# Altium footprint library Wurth_Elektronik_Passive_rev16a.PCBLIB: 810 footprints (part 29 of 51)
Each footprint in its own frame and in the unit in brackets; x right, y up, seen from the top. Pads: shape width x height; smd on the part's side, far side on the other; paste and mask are expansions set on the pad; w line width, h text height; cw(c..) or ccw(c..) is an arc to the next point about the centre after c.
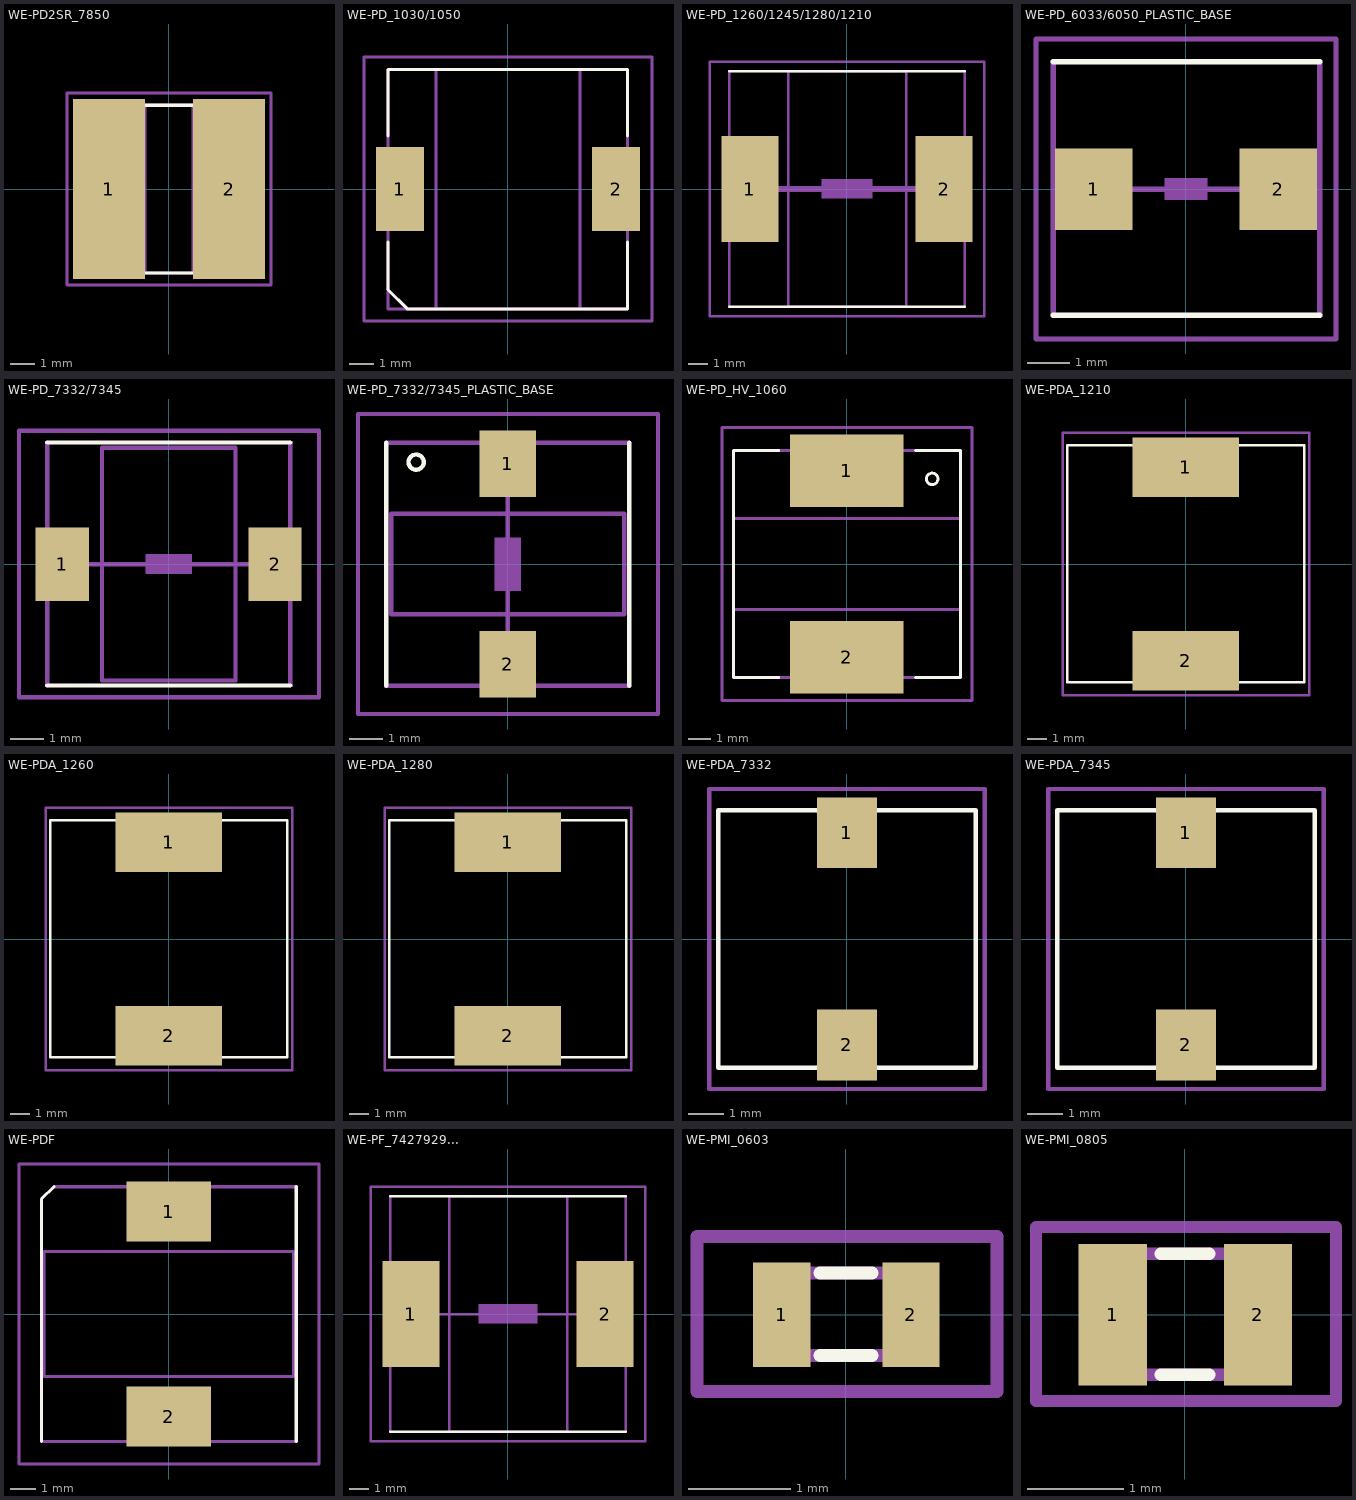
[diagram p28: the footprints below, top view; thin cyan lines are the x and y axes]

## WE-PD2SR_7850 [mil]
pads (2):
  rect 119x296 smd: 1(-98.43,0) 2(99,0)
Top Overlay:
  lines w5: -39.37,-137.8 40,-137.8 ; -39.37,138 40,138
Mechanical 2:
  text ">NAME" at -157.48,179 h77.5
Mechanical 4:
  text ">VALUE" at -157.48,-236.22 h77.5
Mechanical 10:
  lines w5: -39.37,-137.8 -39.37,138 40,138 40,-137.8 -39.37,-137.8
Mechanical 16:
  lines w5: -153.54,-137.8 -153.54,138 154,138 154,-137.8 -153.54,-137.8
Mechanical 27:
  lines w5: -167.32,-157.48 168,-157.48 168,158 -167.32,158 -167.32,-157.48

## WE-PD_1030/1050 [mil]
pads (2):
  rect 79x138 smd: 1(-177.17,0) 2(178,0)
Top Overlay:
  lines w5: -196.85,-86.61 -196.85,-165.35 -165.35,-196.85 197,-196.85 197,-86.61 ; -196.85,87 -196.85,197 197,197 197,87
Mechanical 2:
  text ">NAME" at -346.71,244 h77.5
Mechanical 4:
  text ">VALUE" at -346.71,-294.24 h77.5
Mechanical 10:
  lines w5: -118.11,-196.85 -118.11,197 119,197 119,-196.85 -118.11,-196.85
Mechanical 16:
  lines w5: -196.85,-196.85 -196.85,197 197,197 197,-196.85 -196.85,-196.85
Mechanical 27:
  lines w5: -236.22,-216.54 -236.22,217 237,217 237,-216.54 -236.22,-216.54

## WE-PD_1260/1245/1280/1210 [mil]
pads (2):
  rect 115x213 smd: 1(-194.88,0) 2(195,0)
Top Overlay:
  lines w5: -236.22,-236.22 237,-236.22 ; -236.22,237 237,237
Mechanical 2:
  text ">NAME" at -248.43,-319.69 h77.5
Mechanical 4:
  text ">VALUE" at -228.74,290 h77.5
Mechanical 10:
  lines w5: -118.11,-236.22 -118.11,237 119,237 119,-236.22 -118.11,-236.22
Mechanical 16:
  region: 51.75,-19.43 51.75,20.25 -51.43,20.25 -51.43,-19.43
  lines w5: -236.22,-236.22 -236.22,237 ; 237,-236.22 237,237
  lines w12: -194.88,0 195,0
Mechanical 27:
  lines w5: -275.59,-255.91 -275.59,256 276,256 276,-255.91 -275.59,-255.91

## WE-PD_6033/6050_PLASTIC_BASE [mil]
pads (2):
  rect 71x75 smd: 1(-84.65,0) 2(85,0)
Top Overlay:
  lines w5: -122.05,-116.14 123,-116.14 ; -122.05,117 123,117
Mechanical 2:
  text ">NAME" at -100,-200 h77.5
Mechanical 4:
  text ">VALUE" at -100,150 h77.5
Mechanical 16:
  rectangle: -19.68,-9.84 20,10
  lines w5: -122.05,-116.14 -122.05,117 ; -82.68,0 83,0 ; 123,-116.14 123,117
Mechanical 27:
  lines w5: -137.8,-137.8 -137.8,138 138,138 138,-137.8 -137.8,-137.8

## WE-PD_7332/7345 [mil]
pads (2):
  rect 63x87 smd: 1(-125.98,0) 2(126,0)
Top Overlay:
  lines w5: -143.7,-143.7 144,-143.7 ; -143.7,144 144,144
Mechanical 2:
  text ">NAME" at -144.69,-219.69 h77.5
Mechanical 4:
  text ">VALUE" at -144.69,170 h77.5
Mechanical 10:
  lines w5: -78.74,-137.8 -78.74,138 79,138 79,-137.8 -78.74,-137.8
Mechanical 16:
  region: 27.87,-11.69 27.87,12.13 -27.69,12.13 -27.69,-11.69
  lines w5: -143.7,-143.7 -143.7,144 ; -125.98,0 126,0 ; 144,-143.7 144,144
Mechanical 27:
  lines w5: -177.17,-157.48 -177.17,158 178,158 178,-157.48 -177.17,-157.48

## WE-PD_7332/7345_PLASTIC_BASE [mil]
pads (2):
  rect 67x79 smd: 1(0,119) 2(0,-118.11)
Top Overlay:
  circle w5: c-108.27,121 r9
  lines w5: -143.7,-143.7 -143.7,144 ; 144,-143.7 144,144
Mechanical 2:
  text ">NAME" at -199.21,-160.63 h77.5
Mechanical 4:
  text ">VALUE" at 254,-166.93 h77.5
Mechanical 10:
  lines w5: -137.8,-59.06 -137.8,60 138,60 138,-59.06 -137.8,-59.06
Mechanical 16:
  rectangle: -15.75,-31.5 16,32
  lines w5: -143.7,-143.7 144,-143.7 ; -143.7,144 144,144 ; 0,-111.81 0,112
Mechanical 27:
  lines w5: -177.17,-177.17 -177.17,178 178,178 178,-177.17 -177.17,-177.17

## WE-PD_HV_1060 [mil]
pads (2):
  rect 197x126 smd: 1(0,162) 2(0,-161.42)
Top Overlay:
  circle w5: c148,148 r10
  circle w5: c148,148 r10
  lines w5: -118.11,-196.85 -196.85,-196.85 -196.85,197 -118.11,197 ; 119,-196.85 197,-196.85 197,197 119,197
Mechanical 2:
  text ">NAME" at -237.8,-216.54 h77.5
Mechanical 4:
  text ">VALUE" at 276,-216.54 h77.5
Mechanical 10:
  lines w5: -196.85,-78.74 197,-78.74 197,79 -196.85,79 -196.85,-78.74
Mechanical 16:
  lines w5: -196.85,-196.85 -196.85,197 197,197 197,-196.85 -196.85,-196.85
Mechanical 27:
  lines w5: -216.54,-236.22 217,-236.22 217,237 -216.54,237 -216.54,-236.22

## WE-PDA_1210 [mil]
pads (2):
  rect 213x119 smd: 1(0,193) 2(0,-192.91)
Top Overlay:
  lines w5: -106.3,-236.22 -236.22,-236.22 -236.22,237 -101.18,237 ; 102,237 237,237 237,-236.22 107,-236.22
Mechanical 2:
  text ">NAME" at -250,300 h77.5
Mechanical 4:
  text ">VALUE" at -250,-350 h77.5
Mechanical 16:
  lines w5: -106.3,-236.22 107,-236.22 ; -106.3,237 107,237
Mechanical 27:
  lines w5: -246.06,-261.81 247,-261.81 247,262 -246.06,262 -246.06,-261.81

## WE-PDA_1260 [mil]
pads (2):
  rect 213x119 smd: 1(0,193) 2(0,-192.91)
Top Overlay:
  lines w5: -106.3,-236.22 -236.22,-236.22 -236.22,237 -101.18,237 ; 102,237 237,237 237,-236.22 107,-236.22
Mechanical 2:
  text ">NAME" at -250,300 h77.5
Mechanical 4:
  text ">VALUE" at -250,-350 h77.5
Mechanical 16:
  lines w5: -106.3,-236.22 107,-236.22 ; -106.3,237 107,237
Mechanical 27:
  lines w5: -246.06,-261.81 247,-261.81 247,262 -246.06,262 -246.06,-261.81

## WE-PDA_1280 [mil]
pads (2):
  rect 213x119 smd: 1(0,193) 2(0,-192.91)
Top Overlay:
  lines w5: -106.3,-236.22 -236.22,-236.22 -236.22,237 -101.18,237 ; 102,237 237,237 237,-236.22 107,-236.22
Mechanical 2:
  text ">NAME" at -250,300 h77.5
Mechanical 4:
  text ">VALUE" at -250,-350 h77.5
Mechanical 16:
  lines w5: -106.3,-236.22 107,-236.22 ; -106.3,237 107,237
Mechanical 27:
  lines w5: -246.06,-261.81 247,-261.81 247,262 -246.06,262 -246.06,-261.81

## WE-PDA_7332 [mil]
pads (2):
  rect 67x79 smd: 1(0,119) 2(0,-118.11)
Top Overlay:
  lines w5: -33.46,-143.7 -143.7,-143.7 -143.7,144 -33.46,144 ; 34,-143.7 144,-143.7 144,144 34,144
Mechanical 2:
  text ">NAME" at -171.26,182 h77.5
Mechanical 4:
  text ">VALUE" at -171.26,-231.89 h77.5
Mechanical 16:
  lines w5: -33.46,-143.7 34,-143.7 ; -33.46,144 34,144
Mechanical 27:
  lines w5: -153.54,-167.32 154,-167.32 154,168 -153.54,168 -153.54,-167.32

## WE-PDA_7345 [mil]
pads (2):
  rect 67x79 smd: 1(0,119) 2(0,-118.11)
Top Overlay:
  lines w5: -33.46,-143.7 -143.7,-143.7 -143.7,144 -33.46,144 ; 34,-143.7 144,-143.7 144,144 34,144
Mechanical 2:
  text ">NAME" at -171.26,182 h77.5
Mechanical 4:
  text ">VALUE" at -171.26,-231.89 h77.5
Mechanical 16:
  lines w5: -33.46,-143.7 34,-143.7 ; -33.46,144 34,144
Mechanical 27:
  lines w5: -153.54,-167.32 154,-167.32 154,168 -153.54,168 -153.54,-167.32

## WE-PDF [mil]
pads (2):
  rect 134x95 smd: 1(0,162) 2(0,-161.42)
Top Overlay:
  lines w5: -200.79,-200.79 -200.79,182 -181.1,201 ; 201,-200.79 201,201
Mechanical 2:
  text ">NAME" at -275.59,-196.85 h77.5
Mechanical 4:
  text ">VALUE" at 296,-216.54 h77.5
Mechanical 10:
  lines w5: -196.85,-98.43 -196.85,99 197,99 197,-98.43 -196.85,-98.43
Mechanical 16:
  lines w5: -200.79,-200.79 201,-200.79 ; -181.1,201 201,201
Mechanical 27:
  lines w5: -236.22,-236.22 -236.22,237 237,237 237,-236.22 -236.22,-236.22

## WE-PF_7427929... [mil]
pads (2):
  rect 115x213 smd: 1(-194.88,0) 2(195,0)
Top Overlay:
  lines w5: -236.22,-236.22 237,-236.22 ; -236.22,237 237,237
Mechanical 2:
  text ">NAME" at -235.93,-325.3 h77.5
Mechanical 4:
  text ">VALUE" at -235.93,276 h77.5
Mechanical 10:
  lines w5: -118.11,-236.22 -118.11,237 119,237 119,-236.22 -118.11,-236.22
Mechanical 16:
  region: 59.69,-19.37 59.69,20.31 -59.37,20.31 -59.37,-19.37
  lines w5: -236.22,-236.22 -236.22,237 ; -196.85,0 197,0 ; 237,-236.22 237,237
Mechanical 27:
  lines w5: -275.59,-255.91 -275.59,256 276,256 276,-255.91 -275.59,-255.91

## WE-PMI_0603 [mil]
pads (2):
  rect 22x40 smd: 1(-24.61,0) 2(25,0)
Top Overlay:
  lines w5: -9.84,-15.75 10,-15.75 ; -9.84,16 10,16
Mechanical 2:
  text ">NAME" at -145.13,47 h77.5
Mechanical 4:
  text ">VALUE" at -145.13,-116.2 h77.5
Mechanical 16:
  lines w5: -31.5,-15.75 -31.5,16 32,16 32,-15.75 -31.5,-15.75
Mechanical 27:
  lines w5: -57.09,-29.53 -57.09,30 58,30 58,-29.53 -57.09,-29.53

## WE-PMI_0805 [mil]
pads (2):
  rect 28x58 smd: 1(-29.53,0) 2(30,0)
Top Overlay:
  lines w5: -9.84,-24.61 10,-24.61 ; -9.84,25 10,25
Mechanical 2:
  text ">NAME" at -50.19,67 h77.5
Mechanical 4:
  text ">VALUE" at -45.07,-92.76 h77.5
Mechanical 16:
  lines w5: -39.37,-24.61 40,-24.61 40,25 -39.37,25 -39.37,-24.61
Mechanical 27:
  lines w5: -61.02,-35.43 -61.02,36 62,36 62,-35.43 -61.02,-35.43